# EAGLE library part AT45DB321D- (library Memory)
Atmel AT45DB321D Flash Memory IC FLASH 32MBIT 66MHZ 2.7v DataFlash -MU = 8-pad, 6 x 5 x 1mm MLF (VDFN)
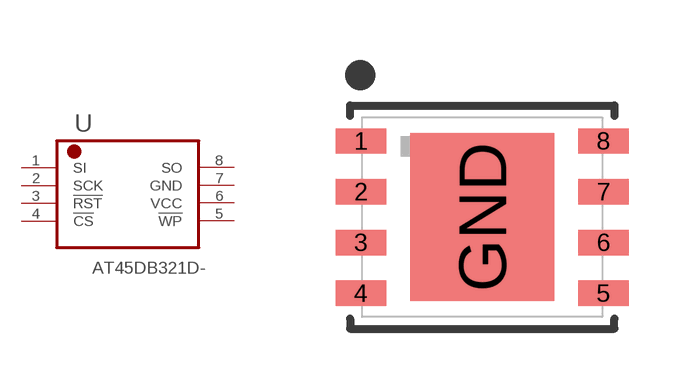
[diagram p2: symbol with the pads of 8-VDFN; footprint 8-VDFN]

Designator prefix U

## AT45DB321D-MU  [8-VDFN]
1  SI  in
2  SCK  in
3  !RST  in
4  !CS  in
5  !WP  in
6  VCC  pwr
7  GND  pwr
8  SO  out

## Footprint 8-VDFN (pad centres in mm)
smd 1.27 x 0.635: 1 -3.032,1.905; 2 -3.032,0.635; 3 -3.032,-0.635; 4 -3.032,-1.905; 5 3.032,-1.905; 6 3.032,-0.635; 7 3.032,0.635; 8 3.032,1.905
smd 3.6 x 4.2: GND 0,0